# Altium schematic symbol library AD8495.Schlib: 1 symbol
Pins are listed as number, name and electrical type; pins without a type are passive.

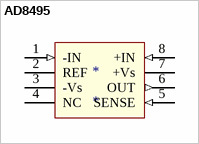
[diagram p0: symbol AD8495]

## AD8495
designator *
Type K Thermocouple Amplifier
pins: 1 -IN (in), 2 REF (power), 3 -Vs (power), 4 NC, 5 SENSE (in), 6 OUT (out), 7 +Vs (power), 8 +IN (in)